# Altium footprint library SparkFun-GPS.PCBLIB: 20 footprints (part 2 of 2)
Each footprint in its own frame and in the unit in brackets; x right, y up, seen from the top. Pads: shape width x height; smd on the part's side, far side on the other; paste and mask are expansions set on the pad; w line width, h text height; cw(c..) or ccw(c..) is an arc to the next point about the centre after c.
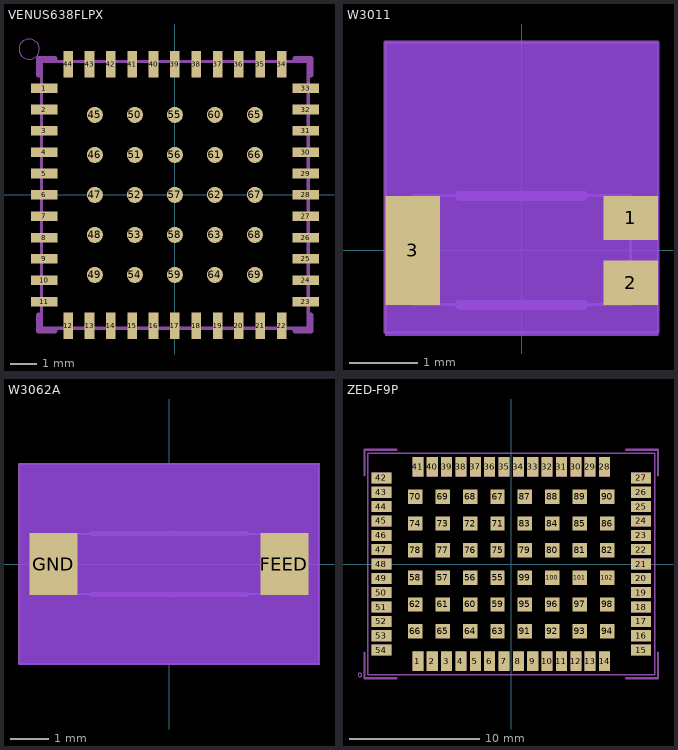
[diagram p1: the footprints below, top view; thin cyan lines are the x and y axes]

## VENUS638FLPX [mm]
pads (69):
  rect 1x0.36 smd: 1(-4.9,4) 2(-4.9,3.2) 3(-4.9,2.4) 4(-4.9,1.6) 5(-4.9,0.8) 6(-4.9,0) 7(-4.9,-0.8) 8(-4.9,-1.6) 9(-4.9,-2.4) 10(-4.9,-3.2) 11(-4.9,-4) 23(4.9,-4) 24(4.9,-3.2) 25(4.9,-2.4) 26(4.9,-1.6) 27(4.9,-0.8) 28(4.9,0) 29(4.9,0.8) 30(4.9,1.6) 31(4.9,2.4) 32(4.9,3.2) 33(4.9,4)
  rect 0.36x1 smd: 12(-4,-4.9) 13(-3.2,-4.9) 14(-2.4,-4.9) 15(-1.6,-4.9) 16(-0.8,-4.9) 17(0,-4.9) 18(0.8,-4.9) 19(1.6,-4.9) 20(2.4,-4.9) 21(3.2,-4.9) 22(4,-4.9) 34(4,4.9) 35(3.2,4.9) 36(2.4,4.9) 37(1.6,4.9) 38(0.8,4.9) 39(0,4.9) 40(-0.8,4.9) 41(-1.6,4.9) 42(-2.4,4.9) 43(-3.2,4.9) 44(-4,4.9)
  rrect100% 0.6x0.6 smd: 45(-3,3) 46(-3,1.5) 47(-3,0) 48(-3,-1.5) 49(-3,-3) 50(-1.5,3) 51(-1.5,1.5) 52(-1.5,0) 53(-1.5,-1.5) 54(-1.5,-3) 55(0,3) 56(0,1.5) 57(0,0) 58(0,-1.5) 59(0,-3) 60(1.5,3) 61(1.5,1.5) 62(1.5,0) 63(1.5,-1.5) 64(1.5,-3) 65(3,3) 66(3,1.5) 67(3,0) 68(3,-1.5) 69(3,-3)
tDocu:
  lines w0.127: -5,-5 -5,5 5,5 5,-5 -5,-5
tPlace:
  circle w0: c-5.461,5.461 r0.381
  lines w0.203: -5.1,-4.5 -5.1,-5.1 -4.5,-5.1 ; -5.1,4.5 -5.1,5.1 -4.5,5.1 ; 4.5,-5.1 5.1,-5.1 5.1,-4.5 ; 4.5,5.1 5.1,5.1 5.1,4.5

## W3011 [mil]
pads (3):
  rect 31.5x25.59 smd: 1(62.99,18.7) 2(62.99,-18.7)
  rect 31.5x62.99 smd: 3(-62.99,0)
Top keep-out:
  region: -78.74,39.37 -78.74,118.11 78.74,118.11 78.74,39.37
  region: -39.37,-39.37 -39.37,39.37 39.37,39.37 39.37,-39.37
  region: -78.74,-47.24 -78.74,-39.37 78.74,-39.37 78.74,-47.24
Bottom keep-out:
  region: -78.74,-49.21 -78.74,120.08 78.74,120.08 78.74,-49.21
tDocu:
  lines w1.97: -78.74,-47.24 -78.74,120.08 78.74,120.08 78.74,-47.24 -78.74,-47.24 ; -62.99,-31.5 62.99,-31.5 62.99,31.5 -62.99,31.5 -62.99,-31.5
  text "Reversible" at 0,5.9 h6.69
  text "Antenna" at 0,-5.9 h6.69
tPlace:
  lines w6: -35.43,-31.5 35.43,-31.5 ; -35.43,31.5 35.43,31.5

## W3062A [mm]
pads (2):
  rect 1.25x1.61 smd: FEED(3,0) GND(-3,0)
Top keep-out:
  region: 3.5,-0.8 3.5,-0.6 3.9,-0.6 3.9,-0.8
  region: 3.5,0.6 3.5,0.8 3.9,0.8 3.9,0.6
  region: -3.9,0.8 -3.9,2.6 3.9,2.6 3.9,0.8
  region: -3.9,-2.6 -3.9,-0.8 3.9,-0.8 3.9,-2.6
  region: -3.9,-0.8 -3.9,-0.6 -3.5,-0.6 -3.5,-0.8
  region: -3.9,0.6 -3.9,0.8 -3.5,0.8 -3.5,0.6
  region: -2.3,-0.8 -2.3,0.8 2.3,0.8 2.3,-0.8
Bottom keep-out:
  region: -3.9,-2.625 -3.9,2.625 3.9,2.625 3.9,-2.625
tDocu:
  region: -3.5,-0.68 -3.5,0.68 -2.5,0.68 -2.5,-0.68
  region: 2.49,-0.68 2.49,0.68 3.49,0.68 3.49,-0.68
  lines w0.05: -3.9,-2.6 3.9,-2.6 3.9,2.6 -3.9,2.6 -3.9,-2.6 ; -3.5,-0.78 3.5,-0.78 3.5,0.78 -3.5,0.78 -3.5,-0.78
  text "Reversible" at 0,0.15 h0.17
  text "Antenna" at 0,-0.15 h0.17
tPlace:
  lines w0.152: -2,-0.8 2,-0.8 ; -2,0.8 2,0.8

## ZED-F9P [mm]
pads (102):
  rect 0.85x1.52 smd: 1(-7.15,-7.45) 2(-6.05,-7.45) 3(-4.95,-7.45) 4(-3.85,-7.45) 5(-2.75,-7.45) 6(-1.65,-7.45) 7(-0.55,-7.45) 8(0.55,-7.45) 9(1.65,-7.45) 10(2.75,-7.45) 11(3.85,-7.45) 12(4.95,-7.45) 13(6.05,-7.45) 14(7.15,-7.45) 28(7.15,7.45) 29(6.05,7.45) 30(4.95,7.45) 31(3.85,7.45) 32(2.75,7.45) 33(1.65,7.45) 34(0.55,7.45) 35(-0.55,7.45) 36(-1.65,7.45) 37(-2.75,7.45) 38(-3.85,7.45) 39(-4.95,7.45) 40(-6.05,7.45) 41(-7.15,7.45)
  rect 1.52x0.85 smd: 15(9.95,-6.6) 16(9.95,-5.5) 17(9.95,-4.4) 18(9.95,-3.3) 19(9.95,-2.2) 20(9.95,-1.1) 21(9.95,0) 22(9.95,1.1) 23(9.95,2.2) 24(9.95,3.3) 25(9.95,4.4) 26(9.95,5.5) 27(9.95,6.6) 42(-9.95,6.6) 43(-9.95,5.5) 44(-9.95,4.4) 45(-9.95,3.3) 46(-9.95,2.2) 47(-9.95,1.1) 48(-9.95,0) 49(-9.95,-1.1) 50(-9.95,-2.2) 51(-9.95,-3.3) 52(-9.95,-4.4) 53(-9.95,-5.5) 54(-9.95,-6.6)
  rect 1.1x1.1 smd paste+0: 55(-1.05,-1.05) 56(-3.15,-1.05) 57(-5.25,-1.05) 58(-7.35,-1.05) 59(-1.05,-3.1) 60(-3.15,-3.1) 61(-5.25,-3.1) 62(-7.35,-3.1) 63(-1.05,-5.15) 64(-3.15,-5.15) 65(-5.25,-5.15) 66(-7.35,-5.15) 67(-1.05,5.15) 68(-3.15,5.15) 69(-5.25,5.15) 70(-7.35,5.15) 71(-1.05,3.1) 72(-3.15,3.1) 73(-5.25,3.1) 74(-7.35,3.1) 75(-1.05,1.05) 76(-3.15,1.05) 77(-5.25,1.05) 78(-7.35,1.05) 79(1.05,1.05) 80(3.15,1.05) 81(5.25,1.05) 82(7.35,1.05) 83(1.05,3.1) 84(3.15,3.1) 85(5.25,3.1) 86(7.35,3.1) 87(1.05,5.15) 88(3.15,5.15) 89(5.25,5.15) 90(7.35,5.15) 91(1.05,-5.15) 92(3.15,-5.15) 93(5.25,-5.15) 94(7.35,-5.15) 95(1.05,-3.1) 96(3.15,-3.1) 97(5.25,-3.1) 98(7.35,-3.1) 99(1.05,-1.05) 100(3.15,-1.05) 101(5.25,-1.05) 102(7.35,-1.05)
Top Paste:
  drawing of 48 lines, arcs and shapes, not listed
tDocu:
  drawing of 58 lines, arcs and shapes, not listed
tPlace:
  circle w0: c-11.6,-8.5 r0.141
  lines w0.178: -11.25,-6.8 -11.25,-8.75 -8.8,-8.75 ; -11.25,6.8 -11.25,8.75 -8.8,8.75 ; 8.8,-8.75 11.25,-8.75 11.25,-6.8 ; 8.8,8.75 11.25,8.75 11.25,6.8